# EAGLE library part 8_POS_XH_DEV (library Blizzard_Library)
8 Pos XH JST
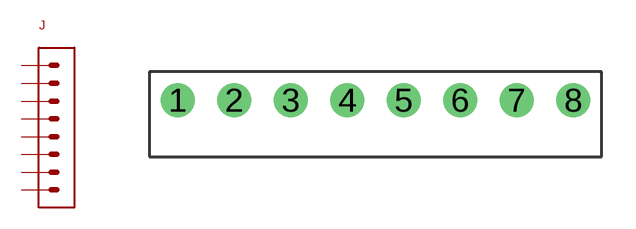
[diagram p0: symbol with the pads of 8_POS_XH_PKG; footprint 8_POS_XH_PKG]

Designator prefix J

## 8_POS_XH_DEV  [8_POS_XH_PKG]
1  P$1
2  P$2
3  P$3
4  P$4
5  P$5
6  P$6
7  P$7
8  P$8

## Footprint 8_POS_XH_PKG (pad centres in mm)
8 Pos 2.5mm pitch
drill 1: 1 -8.75,0; 2 -6.25,0; 3 -3.75,0; 4 -1.25,0; 5 1.25,0; 6 3.75,0; 7 6.25,0; 8 8.75,0